# Altium footprint library Connector.PcbLib: 97 footprints (part 3 of 7)
Each footprint in its own frame and in the unit in brackets; x right, y up, seen from the top. Pads: shape width x height; smd on the part's side, far side on the other; paste and mask are expansions set on the pad; w line width, h text height; cw(c..) or ccw(c..) is an arc to the next point about the centre after c.
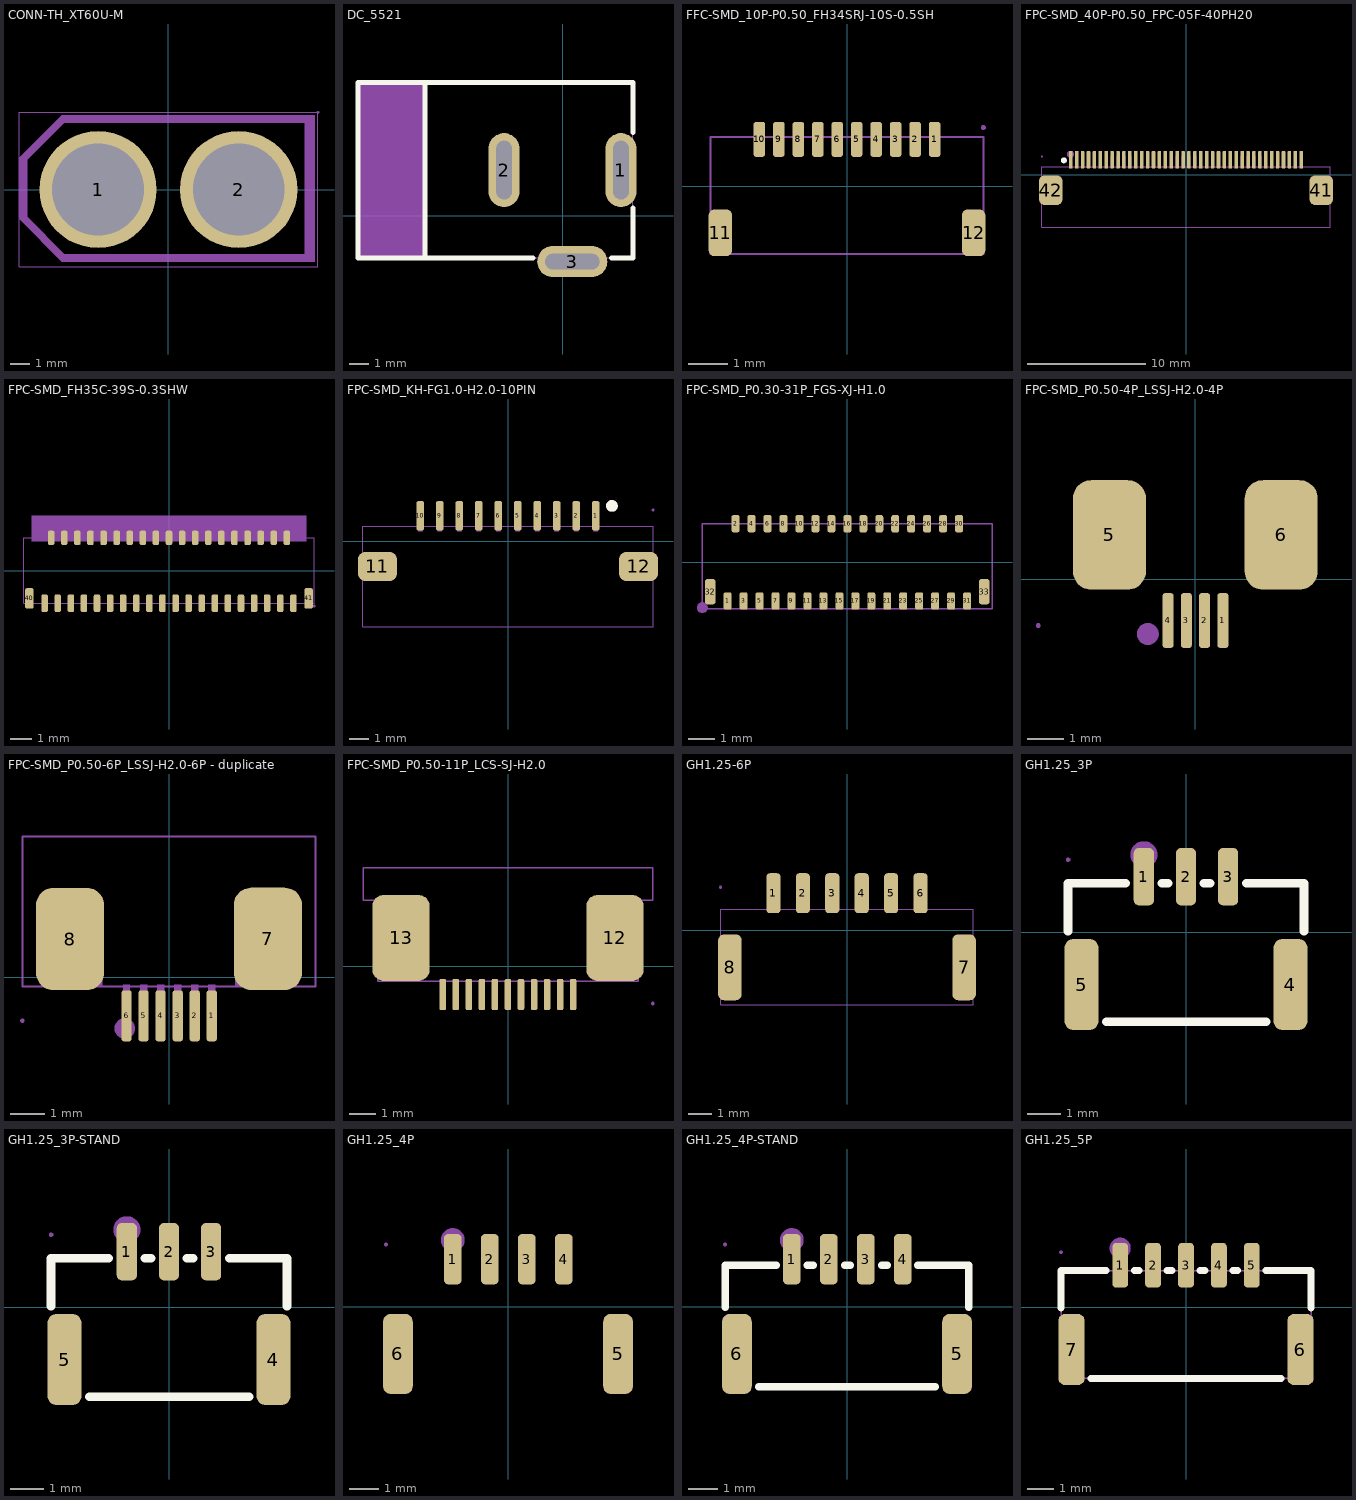
[diagram p2: the footprints below, top view; thin cyan lines are the x and y axes]

## CONN-TH_XT60U-M [mm]
pads (2):
  round 6 hole 4.7 paste-2539.97 mask+0.05: 1(-3.6,0) 2(3.6,0)
Mechanical 2:
  region: -5.461,3.81 -7.62,1.651 -7.366,1.397 -5.207,3.556
  region: -7.62,-1.524 -5.461,-3.683 -5.207,-3.429 -7.366,-1.27
  region: -7.62,1.651 -7.62,-1.524 -7.239,-1.524 -7.239,1.651
  region: -5.461,3.81 7.493,3.81 7.493,3.429 -5.334,3.429
  region: -5.461,-3.683 -5.461,-3.302 7.493,-3.302 7.493,-3.683
  region: 7.493,3.429 7.493,-3.302 6.985,-3.302 6.985,3.429
Mechanical 6:
  lines w0.051: -7.65,-3.95 -7.65,3.95 7.65,3.95 7.65,-3.95 -7.65,-3.95
Mechanical 8:
  region: 7.71,3.95 7.71,3.925 7.675,3.89 7.625,3.89 7.59,3.925 7.59,3.95 7.59,3.975 7.625,4.01 7.675,4.01 7.71,3.975 7.71,3.95
Mechanical 9:
  region: -1.45,0 -1.45,-0.212 -1.533,-0.627 -1.695,-1.018 -1.93,-1.371 -2.229,-1.67 -2.582,-1.905 -2.973,-2.067 -3.388,-2.15 -3.812,-2.15 -4.227,-2.067 -4.618,-1.905 -4.97,-1.67 -5.27,-1.371 -5.505,-1.018 -5.667,-0.627 -5.75,-0.212 -5.75,0 -5.75,0.212 -5.667,0.627 -5.505,1.018 -5.27,1.371 -4.97,1.67 -4.618,1.905 -4.227,2.067 -3.812,2.15 -3.388,2.15 -2.973,2.067 -2.582,1.905 -2.229,1.67 -1.93,1.371 -1.695,1.018 -1.533,0.627 -1.45,0.212 -1.45,0
  region: 5.75,0 5.75,-0.212 5.667,-0.627 5.505,-1.018 5.27,-1.371 4.97,-1.67 4.618,-1.905 4.227,-2.067 3.812,-2.15 3.388,-2.15 2.973,-2.067 2.582,-1.905 2.229,-1.67 1.93,-1.371 1.695,-1.018 1.533,-0.627 1.45,-0.212 1.45,0 1.45,0.212 1.533,0.627 1.695,1.018 1.93,1.371 2.229,1.67 2.582,1.905 2.973,2.067 3.388,2.15 3.812,2.15 4.227,2.067 4.618,1.905 4.97,1.67 5.27,1.371 5.505,1.018 5.667,0.627 5.75,0.212 5.75,0

## DC_5521 [mm] "DC_5521"
pads (3):
  oval 1.6x3.8 hole 0.8 slot 3 at 90 deg mask+0.051: 1(3,2.35) 2(-3,2.35)
  oval 3.6x1.6 hole 0.8 slot 2.8 at 0 deg mask+0.051: 3(0.5,-2.35)
Top Overlay:
  lines w0.254: -10.5,-2.159 -1.513,-2.159 ; -10.5,-2.15 -10.5,6.85 3.606,6.85 3.606,4.283 ; -7.05,-2.15 -7.05,6.85 ; 2.513,-2.159 3.606,-2.159 3.606,0.416
Mechanical 6:
  region: -10.5,6.7 -7.1,6.7 -7.1,-2.1 -10.5,-2.1
Mechanical 15:
  region: 1.5,-2.5 -0.5,-2.5 -0.5,-2.145 1.5,-2.145
  region: -0.5,-2.2 1.5,-2.2 1.5,-2.5 -0.5,-2.5
  region: -2.85,1.1 -3.15,1.1 -3.15,3.6 -2.85,3.6
  region: 2.85,3.6 3.15,3.6 3.15,1.1 2.85,1.1
  region: 3.54,6.85 3.54,6.825 3.575,6.79 3.625,6.79 3.66,6.825 3.66,6.85 3.66,6.875 3.625,6.91 3.575,6.91 3.54,6.875 3.54,6.85
  lines w0.051: -10.5,-2.15 -10.5,6.85 3.6,6.85 3.6,-2.15 -10.5,-2.15
3D body "dc5521 v0.step": height 10.83, standoff -3.77, extent -10.527,-2.35 3.923,7.075

## FFC-SMD_10P-P0.50_FH34SRJ-10S-0.5SH [mm]
pads (12):
  rrect50% 0.3x0.9 smd paste+0.051: 1(2.25,1.2) 2(1.75,1.2) 3(1.25,1.2) 4(0.75,1.2) 5(0.25,1.2) 6(-0.25,1.2) 7(-0.75,1.2) 8(-1.25,1.2) 9(-1.75,1.2) 10(-2.25,1.2)
  rrect50% 0.6x1.2 smd paste+0.051: 11(-3.25,-1.2) 12(3.25,-1.2)
Mechanical 6:
  lines w0.051: -3.5,-1.74 -3.5,1.26 3.5,1.26 3.5,-1.74 -3.5,-1.74
Mechanical 8:
  region: 3.56,1.5 3.56,1.475 3.525,1.44 3.475,1.44 3.44,1.475 3.44,1.5 3.44,1.525 3.475,1.56 3.525,1.56 3.56,1.525 3.56,1.5
Mechanical 9:
  region: 3.15,-0.8 3.35,-0.8 3.35,-1.6 3.15,-1.6
  region: -3.35,-0.8 -3.15,-0.8 -3.15,-1.6 -3.35,-1.6
  region: -2.325,1.5 -2.175,1.5 -2.175,0.9 -2.325,0.9
  region: -1.825,1.5 -1.675,1.5 -1.675,0.9 -1.825,0.9
  region: -1.325,1.5 -1.175,1.5 -1.175,0.9 -1.325,0.9
  region: -0.825,1.5 -0.675,1.5 -0.675,0.9 -0.825,0.9
  region: -0.325,1.5 -0.175,1.5 -0.175,0.9 -0.325,0.9
  region: 0.175,1.5 0.325,1.5 0.325,0.9 0.175,0.9
  region: 0.675,1.5 0.825,1.5 0.825,0.9 0.675,0.9
  region: 1.175,1.5 1.325,1.5 1.325,0.9 1.175,0.9
  region: 1.675,1.5 1.825,1.5 1.825,0.9 1.675,0.9
  region: 2.175,1.5 2.325,1.5 2.325,0.9 2.175,0.9
3D body "3d_pcb1_2025-12-26_asm.stp": height 1.45, standoff 0, extent -3.5,-1.803 3.5,1.397

## FPC-SMD_40P-P0.50_FPC-05F-40PH20 [mm]
pads (42):
  rrect50% 0.3x1.5 smd paste+0 mask+0.05: 1(-9.75,1.288) 2(-9.25,1.288) 3(-8.75,1.288) 4(-8.25,1.288) 5(-7.75,1.288) 6(-7.25,1.288) 7(-6.75,1.288) 8(-6.25,1.288) 9(-5.75,1.288) 10(-5.25,1.288) 11(-4.75,1.288) 12(-4.25,1.288) 13(-3.75,1.288) 14(-3.25,1.288) 15(-2.75,1.288) 16(-2.25,1.288) 17(-1.75,1.288) 18(-1.25,1.288) 19(-0.75,1.288) 20(-0.25,1.288) 21(0.25,1.288) 22(0.75,1.288) 23(1.25,1.288) 24(1.75,1.288) 25(2.25,1.288) 26(2.75,1.288) 27(3.25,1.288) 28(3.75,1.288) 29(4.25,1.288) 30(4.75,1.288) 31(5.25,1.288) 32(5.75,1.288) 33(6.25,1.288) 34(6.75,1.288) 35(7.25,1.288) 36(7.75,1.288) 37(8.25,1.288) 38(8.75,1.288) 39(9.25,1.288) 40(9.75,1.288)
  rrect50% 2x2.5 smd paste+0 mask+0.05: 41(11.44,-1.288) 42(-11.44,-1.288)
Top Overlay:
  circle w0.254: c-10.327,1.24 r0.127
Mechanical 6:
  circle w0.3: c-9.779,1.748 r0.15
Mechanical 15:
  drawing of 47 lines, arcs and shapes, not listed
3D body "fpc40p.step": height 2.01, standoff 0, extent -12.2,-4.064 12.2,1.536

## FPC-SMD_FH35C-39S-0.3SHW [mm]
pads (41):
  rrect50% 0.3x0.8 smd: 1(5.7,-1.5) 3(5.1,-1.5) 5(4.5,-1.5) 7(3.9,-1.5) 9(3.3,-1.5) 11(2.7,-1.5) 13(2.1,-1.5) 15(1.5,-1.5) 17(0.9,-1.5) 19(0.3,-1.5) 21(-0.3,-1.5) 23(-0.9,-1.5) 25(-1.5,-1.5) 27(-2.1,-1.5) 29(-2.7,-1.5) 31(-3.3,-1.5) 33(-3.9,-1.5) 35(-4.5,-1.5) 37(-5.1,-1.5) 39(-5.7,-1.5)
  rrect50% 0.3x0.65 smd: 2(5.4,1.5) 4(4.8,1.5) 6(4.2,1.5) 8(3.6,1.5) 10(3,1.5) 12(2.4,1.5) 14(1.8,1.5) 16(1.2,1.5) 18(0.6,1.5) 20(0,1.5) 22(-0.6,1.5) 24(-1.2,1.5) 26(-1.8,1.5) 28(-2.4,1.5) 30(-3,1.5) 32(-3.6,1.5) 34(-4.2,1.5) 36(-4.8,1.5) 38(-5.4,1.5)
  rrect50% 0.4x0.95 smd: 40(-6.4,-1.275) 41(6.4,-1.275)
Mechanical 6:
  region: 6.3,1.35 6.3,2.5 -6.3,2.5 -6.3,1.35
Mechanical 7:
  lines w0.051: -6.65,-1.5 6.65,-1.5 6.65,1.5 -6.65,1.5 -6.65,-1.5
Mechanical 8:
  region: 6.71,-1.625 6.71,-1.65 6.675,-1.685 6.625,-1.685 6.59,-1.65 6.59,-1.625 6.59,-1.6 6.625,-1.565 6.675,-1.565 6.71,-1.6 6.71,-1.625
Mechanical 9:
  drawing of 41 lines, arcs and shapes, not listed
3D body "FPC41PP-UCK.step": height 0.87, standoff -0.03, extent -6.655,-1.668 6.655,2.532

## FPC-SMD_KH-FG1.0-H2.0-10PIN [mm]
pads (12):
  rrect50% 0.4x1.5 smd paste+0 mask+0.05: 1(4.5,1.3) 2(3.5,1.3) 3(2.5,1.3) 4(1.5,1.3) 5(0.5,1.3) 6(-0.5,1.3) 7(-1.5,1.3) 8(-2.5,1.3) 9(-3.5,1.3) 10(-4.5,1.3)
  rrect50% 2x1.5 smd paste+0 mask+0.05: 11(-6.7,-1.3) 12(6.7,-1.3)
Top Overlay:
  circle w0.3: c5.335,1.808 r0.15
Mechanical 6:
  circle w0.3: c5.335,1.808 r0.15
Mechanical 15:
  region: 7.51,1.6 7.51,1.625 7.475,1.66 7.425,1.66 7.39,1.625 7.39,1.6 7.39,1.575 7.425,1.54 7.475,1.54 7.51,1.575 7.51,1.6
  region: -4.4,0.5 -4.6,0.5 -4.6,1.6 -4.4,1.6
  region: -3.4,0.5 -3.6,0.5 -3.6,1.6 -3.4,1.6
  region: -2.4,0.5 -2.6,0.5 -2.6,1.6 -2.4,1.6
  region: -1.4,0.5 -1.6,0.5 -1.6,1.6 -1.4,1.6
  region: -0.4,0.5 -0.6,0.5 -0.6,1.6 -0.4,1.6
  region: 0.6,0.5 0.4,0.5 0.4,1.6 0.6,1.6
  region: 1.6,0.5 1.4,0.5 1.4,1.6 1.6,1.6
  region: 2.6,0.5 2.4,0.5 2.4,1.6 2.6,1.6
  region: 3.6,0.5 3.4,0.5 3.4,1.6 3.6,1.6
  region: 4.6,0.5 4.4,0.5 4.4,1.6 4.6,1.6
  region: -6.05,-1.75 -7.45,-1.75 -7.45,-0.75 -6.05,-0.75
  region: 7.45,-1.75 6.05,-1.75 6.05,-0.75 7.45,-0.75
  lines w0.051: -7.45,-4.4 -7.45,0.75 7.45,0.75 7.45,-4.4 -7.45,-4.4

## FPC-SMD_P0.30-31P_FGS-XJ-H1.0 [mm]
pads (33):
  rrect50% 0.3x0.65 smd: 1(-4.5,-1.453) 2(-4.2,1.453) 3(-3.9,-1.453) 4(-3.6,1.453) 5(-3.3,-1.453) 6(-3,1.453) 7(-2.7,-1.453) 8(-2.4,1.453) 9(-2.1,-1.453) 10(-1.8,1.453) 11(-1.5,-1.453) 12(-1.2,1.453) 13(-0.9,-1.453) 14(-0.6,1.453) 15(-0.3,-1.453) 16(0,1.453) 17(0.3,-1.453) 18(0.6,1.453) 19(0.9,-1.453) 20(1.2,1.453) 21(1.5,-1.453) 22(1.8,1.453) 23(2.1,-1.453) 24(2.4,1.453) 25(2.7,-1.453) 26(3,1.453) 27(3.3,-1.453) 28(3.6,1.453) 29(3.9,-1.453) 30(4.2,1.453) 31(4.5,-1.453)
  rrect50% 0.4x0.95 smd: 32(-5.15,-1.103) 33(5.15,-1.103)
Mechanical 6:
  lines w0.051: -5.451,-1.751 -5.451,1.449 5.449,1.449 5.449,-1.751 -5.451,-1.751
Mechanical 8:
  region: -5.25,-1.703 -5.25,-1.743 -5.281,-1.816 -5.337,-1.873 -5.411,-1.903 -5.49,-1.903 -5.564,-1.873 -5.62,-1.816 -5.651,-1.743 -5.651,-1.703 -5.651,-1.663 -5.62,-1.59 -5.564,-1.533 -5.49,-1.503 -5.411,-1.503 -5.337,-1.533 -5.281,-1.59 -5.25,-1.663 -5.25,-1.703
Mechanical 9:
  drawing of 33 lines, arcs and shapes, not listed
3D body "fpc31p-fuck.step": height 1.03, standoff 0.03, extent -5.45,-1.778 5.45,1.622

## FPC-SMD_P0.50-4P_LSSJ-H2.0-4P [mm]
pads (6):
  rrect50% 0.3x1.5 smd: 1(0.755,-1.13) 2(0.255,-1.13) 3(-0.245,-1.13) 4(-0.745,-1.13)
  rrect50% 2x3 smd: 5(-2.35,1.211) 6(2.35,1.211)
Mechanical 6:
  circle w0.3: c-1.3,-1.5 r0.15
Mechanical 15:
  region: -4.24,-1.271 -4.24,-1.246 -4.275,-1.211 -4.325,-1.211 -4.36,-1.246 -4.36,-1.271 -4.36,-1.296 -4.325,-1.331 -4.275,-1.331 -4.24,-1.296 -4.24,-1.271
  region: 0.848,-1.557 0.648,-1.557 0.648,-0.757 0.848,-0.757
  region: 0.348,-1.557 0.148,-1.557 0.148,-0.757 0.348,-0.757
  region: -0.152,-1.557 -0.352,-1.557 -0.352,-0.757 -0.152,-0.757
  region: -0.652,-1.557 -0.852,-1.557 -0.852,-0.757 -0.652,-0.757
3D body "fpc4real.step": height 2, standoff 0, extent -3.8,-1.39 3.8,3.81

## FPC-SMD_P0.50-6P_LSSJ-H2.0-6P - duplicate [mm]
pads (8):
  rrect50% 0.3x1.5 smd: 1(1.255,-1.13) 2(0.755,-1.13) 3(0.255,-1.13) 4(-0.245,-1.13) 5(-0.745,-1.13) 6(-1.245,-1.13)
  rrect50% 2x3 smd: 7(2.901,1.13) 8(-2.901,1.124)
Mechanical 6:
  circle w0.3: c-1.3,-1.5 r0.15
Mechanical 15:
  region: -4.24,-1.271 -4.24,-1.246 -4.275,-1.211 -4.325,-1.211 -4.36,-1.246 -4.36,-1.271 -4.36,-1.296 -4.325,-1.331 -4.275,-1.331 -4.24,-1.296 -4.24,-1.271
  region: 1.155,-0.221 1.355,-0.221 1.355,-1.271 1.155,-1.271
  region: 0.655,-0.221 0.855,-0.221 0.855,-1.271 0.655,-1.271
  region: 0.155,-0.221 0.355,-0.221 0.355,-1.271 0.155,-1.271
  region: -0.345,-0.221 -0.145,-0.221 -0.145,-1.271 -0.345,-1.271
  region: -0.845,-0.221 -0.645,-0.221 -0.645,-1.271 -0.845,-1.271
  region: -1.345,-0.221 -1.145,-0.221 -1.145,-1.271 -1.345,-1.271
  region: -3.751,2.35 -1.951,2.35 -1.951,-0.271 -3.751,-0.271
  region: 1.95,2.356 3.75,2.356 3.75,-0.265 1.95,-0.265
  lines w0.051: -4.3,-0.271 -4.3,4.129 4.3,4.129 4.3,-0.271 -4.3,-0.271
3D body "fpc v1.step": height 1.97, standoff -0.03, extent -4.3,-1.071 4.3,4.129

## FPC-SMD_P0.50-11P_LCS-SJ-H2.0 [mm]
pads (13):
  rrect50% 0.25x1.2 smd: 1(2.498,-1.084) 2(1.998,-1.084) 3(1.498,-1.084) 4(0.998,-1.084) 5(0.498,-1.084) 6(-0.002,-1.084) 7(-0.502,-1.084) 8(-1.002,-1.084) 9(-1.502,-1.084) 10(-2.002,-1.084) 11(-2.502,-1.084)
  rrect40% 2.2x3.3 smd: 12(4.1,1.084) 13(-4.1,1.084)
Mechanical 15:
  region: 2.598,-1.43 2.398,-1.43 2.398,-0.53 2.598,-0.53
  region: 2.098,-1.43 1.898,-1.43 1.898,-0.53 2.098,-0.53
  region: 1.598,-1.43 1.398,-1.43 1.398,-0.53 1.598,-0.53
  region: 1.098,-1.43 0.898,-1.43 0.898,-0.53 1.098,-0.53
  region: 0.598,-1.43 0.398,-1.43 0.398,-0.53 0.598,-0.53
  region: 0.098,-1.43 -0.102,-1.43 -0.102,-0.53 0.098,-0.53
  region: -0.402,-1.43 -0.602,-1.43 -0.602,-0.53 -0.402,-0.53
  region: -0.902,-1.43 -1.102,-1.43 -1.102,-0.53 -0.902,-0.53
  region: -1.402,-1.43 -1.602,-1.43 -1.602,-0.53 -1.402,-0.53
  region: -1.902,-1.43 -2.102,-1.43 -2.102,-0.53 -1.902,-0.53
  region: -2.402,-1.43 -2.602,-1.43 -2.602,-0.53 -2.402,-0.53
  region: 5,-0.366 3.2,-0.366 3.2,2.534 5,2.534
  region: -3.2,-0.366 -5,-0.366 -5,2.534 -3.2,2.534
  region: 5.61,-1.43 5.61,-1.405 5.575,-1.37 5.525,-1.37 5.49,-1.405 5.49,-1.43 5.49,-1.455 5.525,-1.49 5.575,-1.49 5.61,-1.455 5.61,-1.43
  lines w0.051: -5.55,2.52 -5.55,3.77 5.55,3.77 5.55,2.52 5,2.52 5,-0.58 -5,-0.58 -5,2.52 -5.55,2.52
3D body "realfpc.step": height 2, standoff 0, extent -5.55,-1.39 5.55,3.81

## GH1.25-6P [mm]
pads (8):
  rrect50% 0.6x1.7 smd paste+0 mask+0.05: 1(-3.125,1.575) 2(-1.875,1.575) 3(-0.625,1.575) 4(0.625,1.575) 5(1.875,1.575) 6(3.125,1.575)
  rrect50% 1x2.8 smd paste+0 mask+0.05: 7(4.975,-1.575) 8(-4.975,-1.575)
Mechanical 15:
  region: -5.315,1.835 -5.315,1.81 -5.35,1.775 -5.4,1.775 -5.435,1.81 -5.435,1.835 -5.435,1.86 -5.4,1.895 -5.35,1.895 -5.315,1.86 -5.315,1.835
  region: 3.025,1.835 3.225,1.835 3.225,0.835 3.025,0.835
  region: 1.775,1.835 1.975,1.835 1.975,0.835 1.775,0.835
  region: -3.225,1.835 -3.025,1.835 -3.025,0.835 -3.225,0.835
  region: -1.975,1.835 -1.775,1.835 -1.775,0.835 -1.975,0.835
  region: -0.725,1.835 -0.525,1.835 -0.525,0.835 -0.725,0.835
  region: 0.525,1.835 0.725,1.835 0.725,0.835 0.525,0.835
  region: 4.875,-0.575 5.075,-0.575 5.075,-2.575 4.875,-2.575
  region: -5.075,-0.575 -4.875,-0.575 -4.875,-2.575 -5.075,-2.575
  lines w0.051: -5.375,-3.165 -5.375,0.885 5.375,0.885 5.375,-3.165 -5.375,-3.165
3D body "User Library-GH-6-90.STEP": height 4.14, standoff -0.02, extent -5.38,-3.014 5.38,1.538

## GH1.25_3P [mm]
pads (5):
  rrect50% 0.6x1.7 smd mask+0.05: 1(-1.25,1.651) 2(0,1.651) 3(1.25,1.651)
  rrect50% 1x2.7 smd mask+0.05: 4(3.1,-1.549) 5(-3.1,-1.549)
Top Overlay:
  lines w0.254: -3.5,0.032 -3.5,1.451 -1.781,1.451 ; -2.369,-2.649 2.381,-2.649 ; -0.719,1.451 -0.531,1.451 ; 0.531,1.451 0.719,1.451 ; 1.969,1.451 1.781,1.451 3.5,1.451 3.5,0.032
Mechanical 6:
  circle w0.4: c-1.25,2.301 r0.2
Mechanical 15:
  region: -3.44,2.151 -3.44,2.176 -3.475,2.211 -3.525,2.211 -3.56,2.176 -3.56,2.151 -3.56,2.126 -3.525,2.091 -3.475,2.091 -3.44,2.126 -3.44,2.151
3D body "SM03B-GHS-TB.SLDPRT": height 4.25, standoff -0.05, extent -3.464,-2.882 3.536,1.968

## GH1.25_3P-STAND [mm]
pads (5):
  rrect50% 0.6x1.7 smd mask+0.05: 1(-1.25,1.651) 2(0,1.651) 3(1.25,1.651)
  rrect50% 1x2.7 smd mask+0.05: 4(3.1,-1.549) 5(-3.1,-1.549)
Top Overlay:
  lines w0.254: -3.5,0.032 -3.5,1.451 -1.781,1.451 ; -2.369,-2.649 2.381,-2.649 ; -0.719,1.451 -0.531,1.451 ; 0.531,1.451 0.719,1.451 ; 1.969,1.451 1.781,1.451 3.5,1.451 3.5,0.032
Mechanical 6:
  circle w0.4: c-1.25,2.301 r0.2
Mechanical 15:
  region: -3.44,2.151 -3.44,2.176 -3.475,2.211 -3.525,2.211 -3.56,2.176 -3.56,2.151 -3.56,2.126 -3.525,2.091 -3.475,2.091 -3.44,2.126 -3.44,2.151
3D body "B03MB-GHS-TBT.STEP": height 4.06, standoff -0.04, extent -3.49,-2.98 3.51,1.92

## GH1.25_4P [mm]
pads (6):
  rrect50% 0.6x1.7 smd mask+0.05: 1(-1.865,1.6) 2(-0.615,1.6) 3(0.635,1.6) 4(1.885,1.6)
  rrect50% 1x2.7 smd mask+0.05: 5(3.715,-1.6) 6(-3.715,-1.6)
Mechanical 6:
  circle w0.4: c-1.865,2.25 r0.2
Mechanical 15:
  region: -4.055,2.1 -4.055,2.125 -4.09,2.16 -4.14,2.16 -4.175,2.125 -4.175,2.1 -4.175,2.075 -4.14,2.04 -4.09,2.04 -4.055,2.075 -4.055,2.1
3D body "SM04B-GHS-TB.STEP": height 4.25, standoff -0.05, extent -4.125,-2.921 4.125,1.929

## GH1.25_4P-STAND [mm]
pads (6):
  rrect50% 0.6x1.7 smd mask+0.05: 1(-1.865,1.6) 2(-0.615,1.6) 3(0.635,1.6) 4(1.885,1.6)
  rrect50% 1x2.7 smd mask+0.05: 5(3.715,-1.6) 6(-3.715,-1.6)
Top Overlay:
  lines w0.254: -4.115,-0.019 -4.115,1.4 -2.396,1.4 ; -2.984,-2.7 2.985,-2.7 ; -1.334,1.4 -1.146,1.4 ; -0.084,1.4 0.104,1.4 ; 1.166,1.4 1.354,1.4 ; 2.396,1.4 4.115,1.4 4.115,-0.019
Mechanical 6:
  circle w0.4: c-1.865,2.25 r0.2
Mechanical 15:
  region: -4.055,2.1 -4.055,2.125 -4.09,2.16 -4.14,2.16 -4.175,2.125 -4.175,2.1 -4.175,2.075 -4.14,2.04 -4.09,2.04 -4.055,2.075 -4.055,2.1
3D body "B04MB-GHS-TBT.STEP": height 4.06, standoff -0.04, extent -4.105,-2.853 4.145,2.047

## GH1.25_5P [mm]
pads (7):
  rrect50% 0.6x1.7 smd mask+0.05: 1(-2.5,1.6) 2(-1.25,1.6) 3(0,1.6) 4(1.25,1.6) 5(2.5,1.6)
  rrect50% 1x2.7 smd mask+0.05: 6(4.35,-1.6) 7(-4.35,-1.6)
Top Overlay:
  lines w0.254: -4.75,-0.019 -4.75,1.4 -3.031,1.4 ; -3.619,-2.7 3.619,-2.7 ; -1.969,1.4 -1.781,1.4 ; -0.719,1.4 -0.531,1.4 ; 0.531,1.4 0.719,1.4 ; 1.781,1.4 1.969,1.4 ; 3.031,1.4 4.75,1.4 4.75,-0.019
Mechanical 6:
  circle w0.4: c-2.5,2.25 r0.2
Mechanical 15:
  region: -4.45,-0.9 -4.25,-0.9 -4.25,-2.6 -4.45,-2.6
  region: 4.25,-0.9 4.45,-0.9 4.45,-2.6 4.25,-2.6
  region: 2.4,2.1 2.6,2.1 2.6,1.1 2.4,1.1
  region: 1.15,2.1 1.35,2.1 1.35,1.1 1.15,1.1
  region: -0.1,2.1 0.1,2.1 0.1,1.1 -0.1,1.1
  region: -1.35,2.1 -1.15,2.1 -1.15,1.1 -1.35,1.1
  region: -2.6,2.1 -2.4,2.1 -2.4,1.1 -2.6,1.1
  region: -4.69,2.1 -4.69,2.125 -4.725,2.16 -4.775,2.16 -4.81,2.125 -4.81,2.1 -4.81,2.075 -4.775,2.04 -4.725,2.04 -4.69,2.075 -4.69,2.1
  lines w0.051: -4.75,-2.7 -4.75,1.4 4.75,1.4 4.75,-2.7 -4.75,-2.7
3D body "GH1.25 5P v1.step": height 4.38, standoff 0.03, extent -4.75,-2.921 4.75,1.879